# Altium schematic symbol library Auxiliary.SchLib: 1 symbol
Pins are listed as number, name and electrical type; pins without a type are passive.

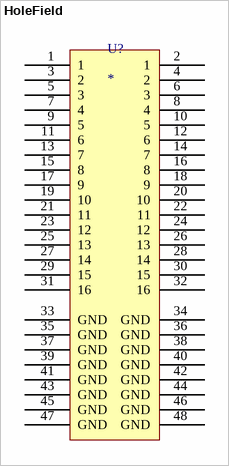
[diagram p0: symbol HoleField]

## HoleField
designator U?
footprint HoleField
pins: 1, 2 1, 3 2, 4 2, 5 3, 6 3, 7 4, 8 4, 9 5, 10 5, 11 6, 12 6, 13 7, 14 7, 15 8, 16 8, 17 9, 18 9, 19 10, 20 10, 21 11, 22 11, 23 12, 24 12, 25 13, 26 13, 27 14, 28 14, 29 15, 30 15, 31 16, 32 16, 33 GND, 34 GND, 35 GND, 36 GND, 37 GND, 38 GND, 39 GND, 40 GND, 41 GND, 42 GND, 43 GND, 44 GND, 45 GND, 46 GND, 47 GND, 48 GND